# EAGLE library part 52760-0279 (library con-molex)
MOLEX Connector SD-52760-**79 Source: 52760-1079_sd molex.pdf
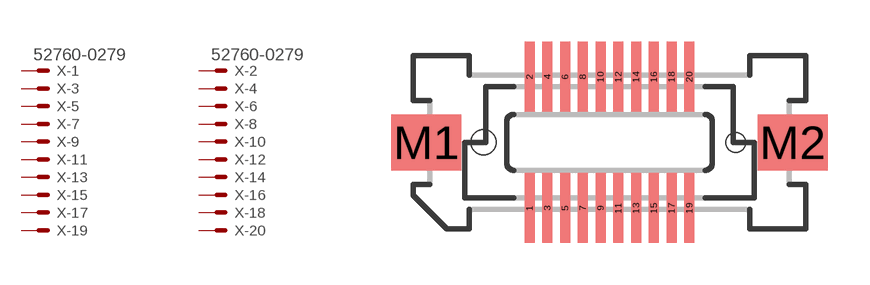
[diagram p180: symbol with the pads of 52760-0279; footprint 52760-0279]

Designator prefix X; gates -1=MV -2=MV -3=M -4=M -5=M -6=M -7=M -8=M -9=M -10=M -11=M -12=M -13=M -14=M -15=M -16=M -17=M -18=M -19=M -20=M

## 52760-0279 (MF: MOLEX; MPN: 52760-0279; OC_FARNELL: unknown; OC_NEWARK: 92M6430)  [52760-0279]
1  -1:S  pas
2  -2:S  pas
3  -3:S  pas
4  -4:S  pas
5  -5:S  pas
6  -6:S  pas
7  -7:S  pas
8  -8:S  pas
9  -9:S  pas
10  -10:S  pas
11  -11:S  pas
12  -12:S  pas
13  -13:S  pas
14  -14:S  pas
15  -15:S  pas
16  -16:S  pas
17  -17:S  pas
18  -18:S  pas
19  -19:S  pas
20  -20:S  pas

## Footprint 52760-0279 (pad centres in mm)
MOLEX Connector SD-52760-**79 Source: 52760-1079_sd molex.pdf
smd 0.35 x 2.5: 1 -2.857,-2.35; 2 -2.857,2.35; 3 -2.223,-2.35; 4 -2.223,2.35; 5 -1.587,-2.35; 6 -1.587,2.35; 7 -0.953,-2.35; 8 -0.953,2.35; 9 -0.318,-2.35; 10 -0.318,2.35; 11 0.318,-2.35; 12 0.318,2.35; 13 0.953,-2.35; 14 0.953,2.35; 15 1.587,-2.35; 16 1.587,2.35; 17 2.223,-2.35; 18 2.223,2.35; 19 2.857,-2.35; 20 2.857,2.35
smd 2.5 x 2: M1 -6.55,0; M2 6.55,0
hole 0.9 at -4.51,0
hole 0.7 at 4.51,0